# Altium schematic symbol library SCH - OPTOISOLATORS - TOSHIBA TLP2270.SCHLIB: 1 symbol
Pins are listed as number, name and electrical type; pins without a type are passive.

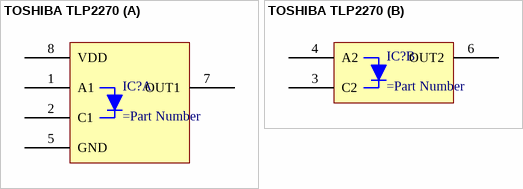
[diagram p0: symbol TOSHIBA TLP2270]

## TOSHIBA TLP2270
designator IC?
part A pins: 1 A1, 2 C1, 5 GND, 7 OUT1, 8 VDD
part B pins: 3 C2, 4 A2, 6 OUT2